# EAGLE library part MOTOR_DRIVER (library Taylor)
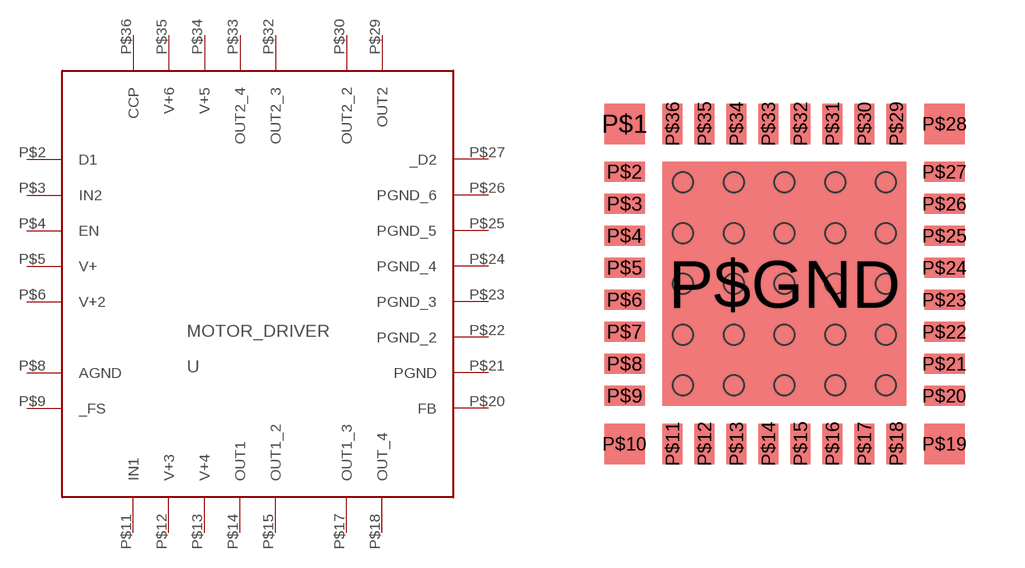
[diagram p0: symbol with the pads of 36-PQFN; footprint 36-PQFN]

Designator prefix -

## MOTOR_DRIVER  [36-PQFN]
P$2  D1
P$3  IN2
P$4  EN
P$5  V+
P$6  V+2
P$8  AGND
P$9  _FS
P$11  IN1
P$12  V+3
P$13  V+4
P$14  OUT1
P$15  OUT1_2
P$17  OUT1_3
P$18  OUT_4
P$20  FB
P$21  PGND
P$22  PGND_2
P$23  PGND_3
P$24  PGND_4
P$25  PGND_5
P$26  PGND_6
P$27  _D2
P$29  OUT2
P$30  OUT2_2
P$32  OUT2_3
P$33  OUT2_4
P$34  V+5
P$35  V+6
P$36  CCP

## Footprint 36-PQFN (pad centres in mm)
smd 1.016 x 1.016: P$1 -4,4; P$10 -4,-4; P$19 4,-4; P$28 4,4
smd 1.016 x 0.508: P$2 -4,2.8; P$3 -4,2; P$4 -4,1.2; P$5 -4,0.4; P$6 -4,-0.4; P$7 -4,-1.2; P$8 -4,-2; P$9 -4,-2.8; P$20 4,-2.8; P$21 4,-2; P$22 4,-1.2; P$23 4,-0.4; P$24 4,0.4; P$25 4,1.2; P$26 4,2; P$27 4,2.8
smd 0.508 x 1.016: P$11 -2.8,-4; P$12 -2,-4; P$13 -1.2,-4; P$14 -0.4,-4; P$15 0.4,-4; P$16 1.2,-4; P$17 2,-4; P$18 2.8,-4; P$29 2.8,4; P$30 2,4; P$31 1.2,4; P$32 0.4,4; P$33 -0.4,4; P$34 -1.2,4; P$35 -2,4; P$36 -2.8,4
smd 6.096 x 6.096: P$GND 0,0
hole 0.5 at -2.54,2.54
hole 0.5 at -1.27,2.54
hole 0.5 at 0,2.54
hole 0.5 at 1.27,2.54
hole 0.5 at 2.54,2.54
hole 0.5 at 2.54,1.27
hole 0.5 at 1.27,1.27
hole 0.5 at 0,1.27
hole 0.5 at -1.27,1.27
hole 0.5 at -2.54,1.27
hole 0.5 at -2.54,0
hole 0.5 at -1.27,0
hole 0.5 at 0,0
hole 0.5 at 1.27,0
hole 0.5 at 2.54,0
hole 0.5 at 2.54,-1.27
hole 0.5 at 1.27,-1.27
hole 0.5 at 0,-1.27
hole 0.5 at -1.27,-1.27
hole 0.5 at -2.54,-1.27
hole 0.5 at -2.54,-2.54
hole 0.5 at -1.27,-2.54
hole 0.5 at 0,-2.54
hole 0.5 at 1.27,-2.54
hole 0.5 at 2.54,-2.54